# Altium footprint library MSOP8.PcbLib: 1 footprints
Each footprint in its own frame and in the unit in brackets; x right, y up, seen from the top. Pads: shape width x height; smd on the part's side, far side on the other; paste and mask are expansions set on the pad; w line width, h text height; cw(c..) or ccw(c..) is an arc to the next point about the centre after c.
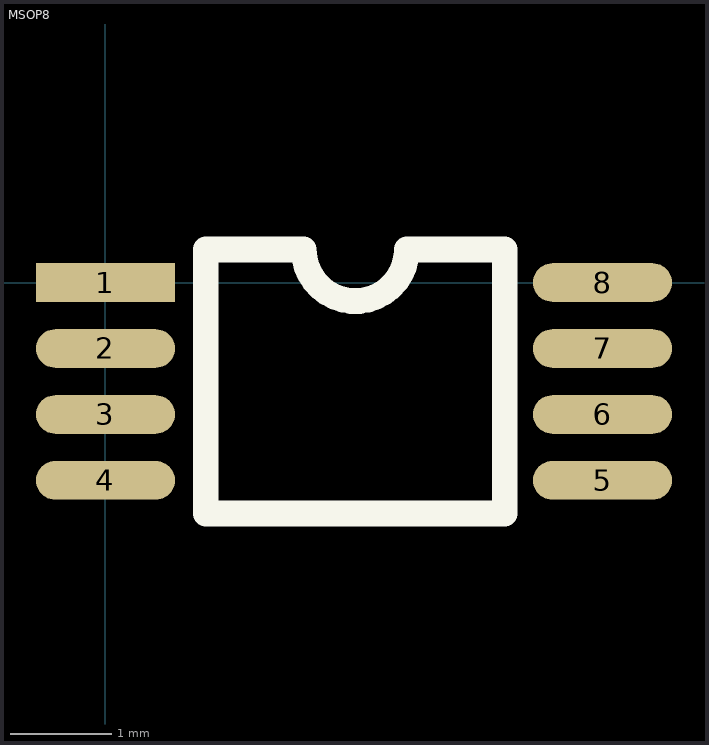
[diagram p0: the footprint, top view; thin cyan lines are the x and y axes]

## MSOP8 [mil]
pads (8):
  rect 54x15 smd: 1(0,0)
  oval 54x15 smd: 2(0,-25.6) 3(0,-51.2) 4(0,-76.8) 5(193,-76.8) 6(193,-51.2) 7(193,-25.6) 8(193,0)
TopOverlay:
  lines w10: 39,-89.6 155,-89.6 155,12.8 117,12.8 cw(c97,12.8) 77,12.8 70,12.8 39,12.8 39,-89.6
Mechanical4:
  text ".040" at 0,0 h1
3D body: height 42.94, standoff -0.37, extent -0.99,-99.77 193.4,22.28